# EAGLE library part PCA9547 (library GRITSBot)
NXP Semiconductors PCA9547 I²C, SMBus Translating Multiplexer Datasheet: http://www.nxp.com/documents/data_sheet/PCA9547.pdf Purchase: http://www.digikey.com/product-detail/en/PCA9547BS,118/568-3379-1-ND/1125734
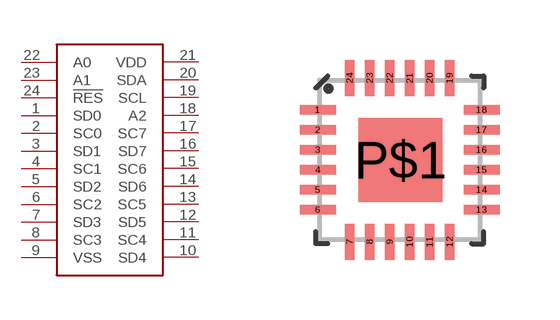
[diagram p24: symbol with the pads of HVQFN24; footprint HVQFN24]

Designator prefix -

## PCA9547  [HVQFN24]
1  SD0
2  SC0
3  SD1
4  SC1
5  SD2
6  SC2
7  SD3
8  SC3
9  VSS
10  SD4
11  SC4
12  SD5
13  SC5
14  SD6
15  SC6
16  SD7
17  SC7
18  A2
19  SCL
20  SDA
21  VDD
22  A0
23  A1
24  !RES

## Footprint HVQFN24 (pad centres in mm)
smd 0.9 x 0.24: 1 -2.05,1.25; 2 -2.05,0.75; 3 -2.05,0.25; 4 -2.05,-0.25; 5 -2.05,-0.75; 6 -2.05,-1.25; 13 2.05,-1.25; 14 2.05,-0.75; 15 2.05,-0.25; 16 2.05,0.25; 17 2.05,0.75; 18 2.05,1.25
smd 0.24 x 0.9: 7 -1.25,-2.05; 8 -0.75,-2.05; 9 -0.25,-2.05; 10 0.25,-2.05; 11 0.75,-2.05; 12 1.25,-2.05; 19 1.25,2.05; 20 0.75,2.05; 21 0.25,2.05; 22 -0.25,2.05; 23 -0.75,2.05; 24 -1.25,2.05
smd 2.1 x 2.1: P$1 0.02,-0.01